# Altium schematic symbol library LM3409.SchLib: 1 symbol
Pins are listed as number, name and electrical type; pins without a type are passive.

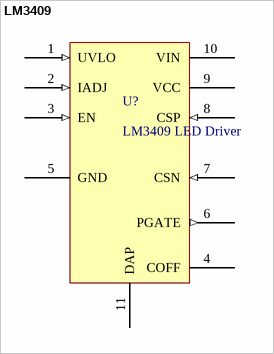
[diagram p0: symbol LM3409]

## LM3409
designator U?, comment LM3409 LED Driver
PFET Buck Controller for High Power LED Drivers; Farnell: 1778582 £2.77
footprint 10eMSOP + thermal pad - LM3409 (TSSOP, 10-Leads, Body 3.1x3.1mm (max), Pitch 0.50mm, IPC Medium Density)
pins: 1 UVLO (in), 2 IADJ (in), 3 EN (in), 4 COFF, 5 GND (power), 6 PGATE (out), 7 CSN (in), 8 CSP (in), 9 VCC (power), 10 VIN, 11 DAP (power)